# Altium schematic symbol library LED_GREEN.SchLib: 1 symbol
Pins are listed as number, name and electrical type; pins without a type are passive.

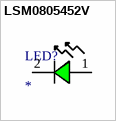
[diagram p0: symbol LSM0805452V]

## LSM0805452V
designator LED?
No Description Available; Mfr_Name: VCC
footprint LED_05452V_VCC-M
pins: 1, 2